# EAGLE library part ATTINY84-20PU (library MMC Eagle)
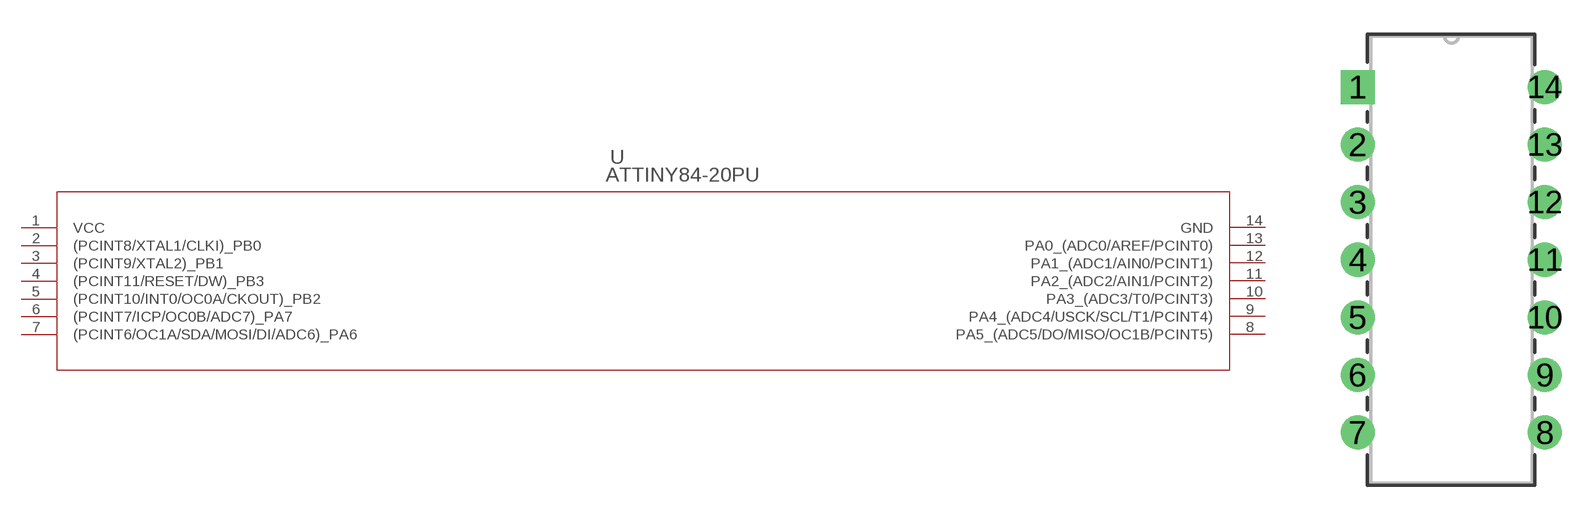
[diagram p5: symbol with the pads of 14P3; footprint 14P3]

Designator prefix U

## ATTINY84-20PU (MANUFACTURER_PART_NUMBER: ATTINY8420PU; VENDOR: Atmel)  [14P3]
1  VCC  pwr
2  (PCINT8/XTAL1/CLKI)_PB0
3  (PCINT9/XTAL2)_PB1
4  (PCINT11/RESET/DW)_PB3
5  (PCINT10/INT0/OC0A/CKOUT)_PB2
6  (PCINT7/ICP/OC0B/ADC7)_PA7
7  (PCINT6/OC1A/SDA/MOSI/DI/ADC6)_PA6
8  PA5_(ADC5/DO/MISO/OC1B/PCINT5)
9  PA4_(ADC4/USCK/SCL/T1/PCINT4)
10  PA3_(ADC3/T0/PCINT3)
11  PA2_(ADC2/AIN1/PCINT2)
12  PA1_(ADC1/AIN0/PCINT1)
13  PA0_(ADC0/AREF/PCINT0)
14  GND  pwr

## Footprint 14P3 (pad centres in mm)
drill 0.991 pad 1.499 square: 1 -8.255,15.24
drill 0.991 pad 1.499: 2 -8.255,12.7; 3 -8.255,10.16; 4 -8.255,7.62; 5 -8.255,5.08; 6 -8.255,2.54; 7 -8.255,0; 8 0,0; 9 0,2.54; 10 0,5.08; 11 0,7.62; 12 0,10.16; 13 0,12.7; 14 0,15.24